# Altium footprint library Chips.PcbLib: 116 footprints (part 5 of 8)
Each footprint in its own frame and in the unit in brackets; x right, y up, seen from the top. Pads: shape width x height; smd on the part's side, far side on the other; paste and mask are expansions set on the pad; w line width, h text height; cw(c..) or ccw(c..) is an arc to the next point about the centre after c.
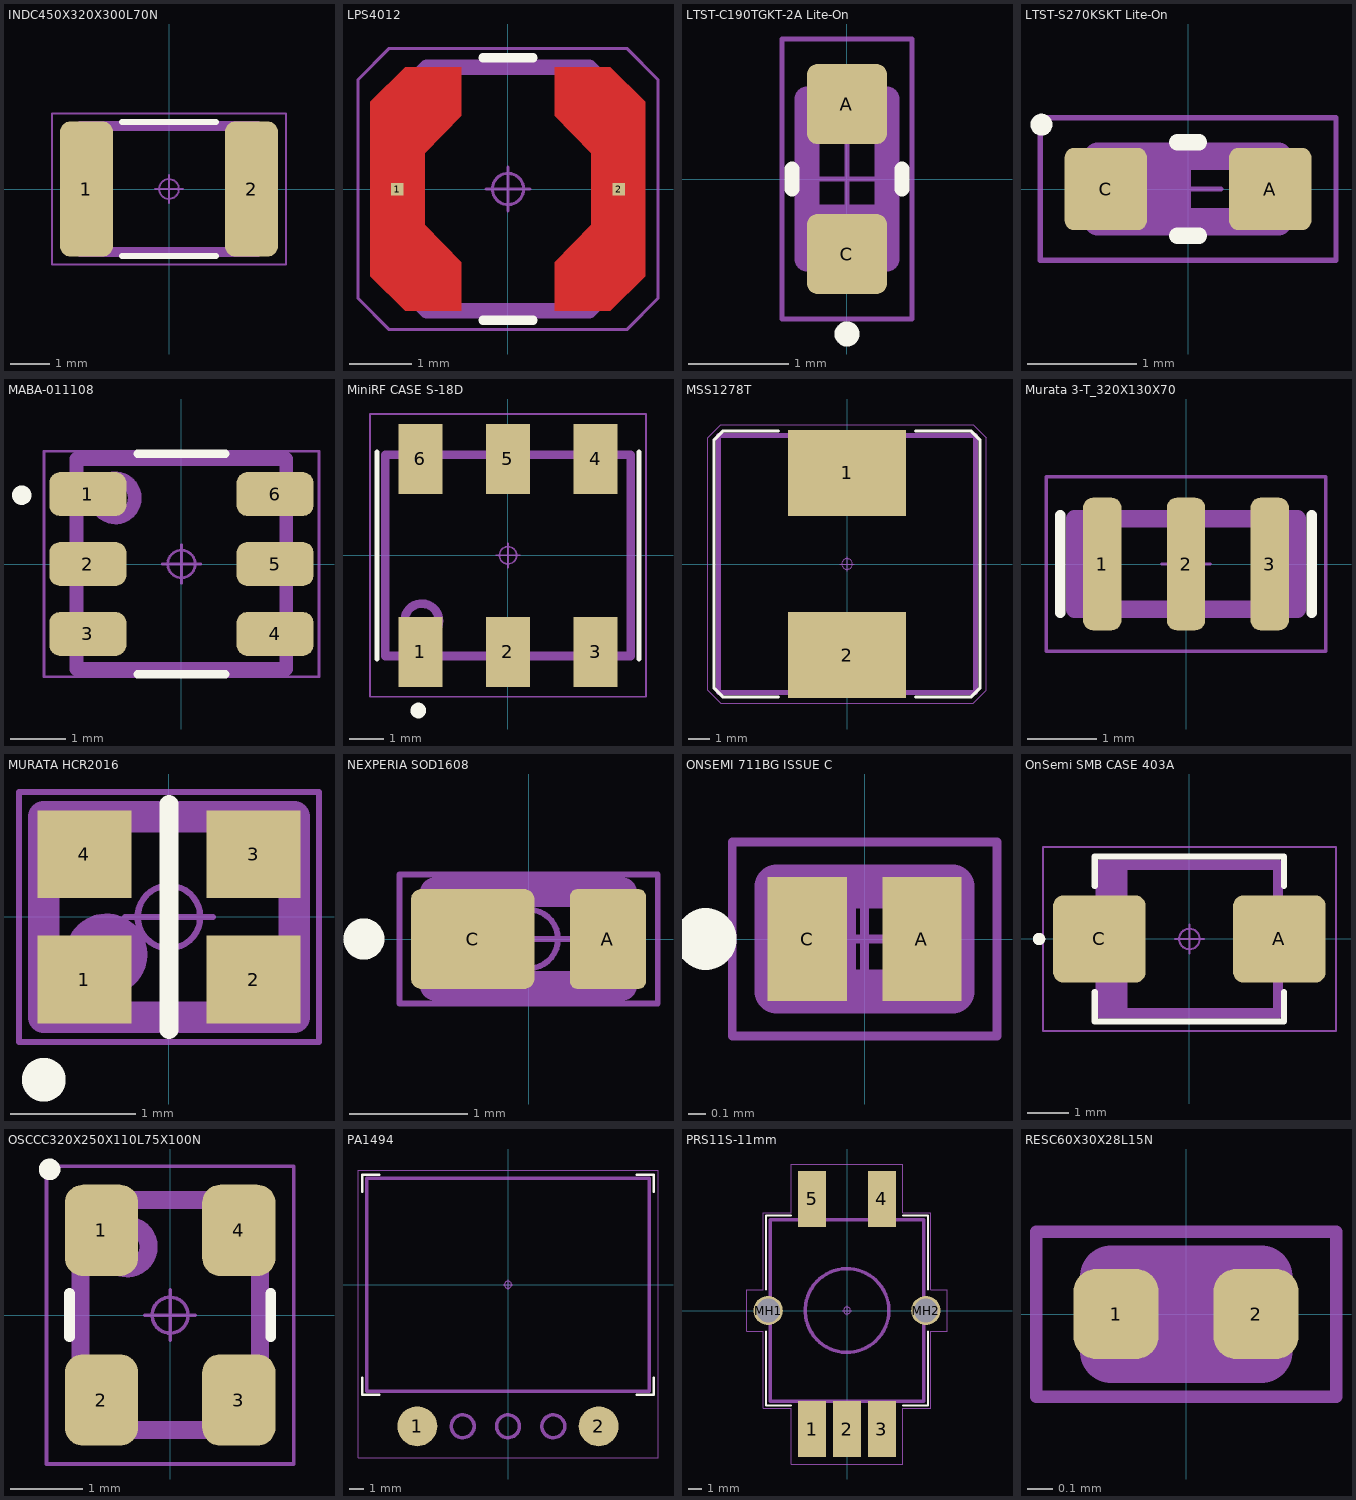
[diagram p4: the footprints below, top view; thin cyan lines are the x and y axes]

## INDC450X320X300L70N [mm] "Inductor, Chip; 4.50 mm L X 3.20 mm W X 3.00 mm H body"
height 3
pads (2):
  rrect37% 1.34x3.42 smd: 1(-2.09,0) 2(2.09,0)
Top Overlay:
  lines w0.15: -1.195,-1.7 1.195,-1.7 ; -1.195,1.7 1.195,1.7
Top Assembly:
  lines w0.25: -2.25,-1.6 2.25,-1.6 2.25,1.6 -2.25,1.6 -2.25,-1.6
  text ".Designator" at 0,0 h1.5
Top Courtyard:
  circle w0.05: c0,0 r0.25
  lines w0.05: -0.35,0 0.35,0 ; 0,-0.35 0,0.35 ; -2.96,-1.91 2.96,-1.91 2.96,1.91 -2.96,1.91 -2.96,-1.91
3D body "INDC450X320X300L70.STEP": height 3, standoff 0, extent -2.25,-1.6 2.25,1.6

## LPS4012 [mm] "Coilcraft LPS4012- series"
height 1.1
pads (2):
  rect 0.2x0.2 smd paste-2539.97 mask+0.102: 1(-1.775,0) 2(1.775,0)
Top Layer:
  region: -2.2,-1.395 -1.64,-1.945 -0.75,-1.945 -0.75,-1.17 -1.33,-0.575 -1.33,0.575 -0.75,1.17 -0.75,1.945 -1.64,1.945 -2.2,1.395
  region: 0.75,-1.945 0.75,-1.17 1.33,-0.575 1.33,0.575 0.75,1.17 0.75,1.945 1.64,1.945 2.2,1.395 2.2,-1.395 1.64,-1.945
Top Overlay:
  lines w0.15: -0.4,-2.1 0.4,-2.1 ; -0.4,2.1 0.4,2.1
Top Assembly:
  lines w0.25: -1.948,-1.298 -1.298,-1.948 1.298,-1.948 1.948,-1.298 1.948,1.298 1.298,1.948 -1.298,1.948 -1.948,1.298 -1.948,-1.298
  text ".Designator" at -3.378,-0.339 h1.5
Top Courtyard:
  circle w0.05: c0,0 r0.25
  lines w0.05: -0.35,0 0.35,0 ; 0,-0.35 0,0.35 ; -2.4,-1.75 -2.4,1.75 -1.9,2.25 1.9,2.25 2.4,1.75 2.4,-1.75 1.9,-2.25 -1.9,-2.25 -2.4,-1.75
3D body "Coilcraft-LPS4012.step": height 1.21, standoff 0.01, extent -1.99,-1.99 1.99,1.99

## LTST-C190TGKT-2A Lite-On [mm] "Lite-ON 0603 Green"
height 0.8
pads (2):
  rrect25% 0.8x0.8 smd: A(0,0.75) C(0,-0.75)
Top Overlay:
  circle w0.15: c0,-1.55 r0.05
  lines w0.15: -0.55,-0.1 -0.55,0.1 ; 0.55,-0.1 0.55,0.1
Top Assembly:
  rectangle: -0.381,-0.8 0.381,-0.254
  lines w0.25: -0.4,-0.8 -0.4,0.8 0.4,0.8 0.4,-0.8 -0.4,-0.8
  text ".Designator" at -3.378,-0.339 h1.5
Top Courtyard:
  lines w0.05: -0.35,0 0.35,0 ; 0,-0.35 0,0.35 ; -0.65,-1.4 -0.65,1.4 0.65,1.4 0.65,-1.4 -0.65,-1.4
3D body "LTST-C190TGKT-2A.STEP": height 0.85, standoff 0, extent -0.4,-0.8 0.4,0.8

## LTST-S270KSKT Lite-On [mm] "Chip Diode, 2-Leads, Body 1.65x0.60mm, IPC Medium Density"
height 1.15
pads (2):
  rrect22% 0.75x0.75 smd: A(0.75,0) C(-0.75,0)
Top Overlay:
  circle w0.1: c-1.337,0.587 r0.05
  lines w0.15: -0.1,-0.425 0.1,-0.425 ; -0.1,0.425 0.1,0.425
Top Assembly:
  rectangle: -0.8,-0.3 0,0.25
  lines w0.25: -0.825,-0.3 -0.825,0.3 0.825,0.3 0.825,-0.3 -0.825,-0.3
  text ".Designator" at -0.55,0.682 h1.5
Top Courtyard:
  lines w0.05: -0.3,0 0.3,0 ; 0,-0.3 0,0.3 ; -1.35,-0.65 -1.35,0.65 1.35,0.65 1.35,-0.65 -1.35,-0.65
3D body "LTST-S270KSKT.STEP": height 1.15, standoff 0, extent -0.825,-0.3 0.825,0.3

## MABA-011108 [mm] "MA-COM 3.81X3.81X3.22 6-pin"
height 3.22
pads (6):
  rrect50% 1.4x0.8 smd: 1(-1.7,1.27) 2(-1.7,0) 3(-1.7,-1.27) 4(1.7,-1.27) 5(1.7,0) 6(1.7,1.27)
Top Overlay:
  circle w0.25: c-2.9,1.25 r0.05
  lines w0.15: -0.8,-2 0.8,-2 ; -0.8,2 0.8,2
Top Assembly:
  circle w0.25: c-1.2,1.2 r0.354
  lines w0.25: -1.905,-1.905 1.905,-1.905 1.905,1.905 -1.905,1.905 -1.905,-1.905
  text ".Designator" at -3.378,-0.339 h1.5
Top Courtyard:
  circle w0.05: c0,0 r0.25
  lines w0.05: -0.35,0 0.35,0 ; 0,-0.35 0,0.35 ; -2.498,-2.048 2.498,-2.048 2.498,2.048 -2.498,2.048 -2.498,-2.048
3D body "MABA-011108.STEP": height 3.22, standoff 0, extent -1.9,-1.9 1.9,1.9

## MiniRF CASE S-18D [mm] "6 pin, 2.54 pitch, 7.11 x 6.35 x 3.18"
height 3.148
pads (6):
  rect 1.27x2.03 smd: 1(-2.54,-2.8) 2(0,-2.8) 3(2.54,-2.8) 4(2.54,2.8) 5(0,2.8) 6(-2.54,2.8)
Top Overlay:
  circle w0.254: c-2.6,-4.5 r0.1
  lines w0.15: -3.8,-3 -3.8,3 ; 3.8,-3 3.8,3
Top Assembly:
  circle w0.25: c-2.5,-1.9 r0.5
  lines w0.25: -3.555,-2.92 -3.555,2.92 3.555,2.92 3.555,-2.92 -3.555,-2.92
  text ".Designator" at -3.378,-0.339 h1.5
Top Courtyard:
  circle w0.05: c0,0 r0.25
  lines w0.05: -0.35,0 0.35,0 ; 0,-0.35 0,0.35 ; -3.998,-4.098 3.998,-4.098 3.998,4.098 -3.998,4.098 -3.998,-4.098
3D body "MiniRF S-18D.STEP": height 3.18, standoff 0, extent -3.555,-3.175 3.555,3.175

## MSS1278T [mm] "Coilcraft MSS1278T Series"
height 7.8
pads (2):
  rect 5.5x4 smd: 1(0,4.25) 2(0,-4.25)
Top Overlay:
  lines w0.15: -3.2,-6.2 -5.8,-6.2 -6.2,-5.8 -6.2,5.8 -5.8,6.2 -3.2,6.2 ; 3.2,-6.2 5.8,-6.2 6.2,-5.8 6.2,5.8 5.8,6.2 3.2,6.2
Top Assembly:
  lines w0.25: -6,-6 6,-6 6,6 -6,6 -6,-6
  text ".Designator" at -3.3,-0.3 h1.5
Top Courtyard:
  circle w0.05: c0,0 r0.25
  lines w0.05: -0.35,0 0.35,0 ; 0,-0.35 0,0.35 ; -6.5,-5.9 -6.5,5.9 -5.9,6.5 5.9,6.5 6.5,5.9 6.5,-5.9 5.9,-6.5 -5.9,-6.5 -6.5,-5.9
3D body "MSS1278T.STEP": height 7.8, standoff 0, extent -6,-6 6,6

## Murata 3-T_320X130X70 [mm] "Murata 3-Terminal 3.2X1.3X0.7"
height 0.7
pads (3):
  rrect50% 0.55x1.9 smd: 1(-1.2,0) 2(0,0) 3(1.2,0)
Top Overlay:
  lines w0.15: -1.8,-0.7 -1.8,0.7 ; 1.8,-0.7 1.8,0.7
Top Assembly:
  lines w0.25: -1.598,-0.648 1.598,-0.648 1.598,0.648 -1.598,0.648 -1.598,-0.648
  text ".Designator" at -3.378,-0.339 h1.5
Top Courtyard:
  circle w0.05: c0,0 r0.25
  lines w0.05: -0.35,0 0.35,0 ; 0,-0.35 0,0.35 ; -2,-1.25 -2,1.25 2,1.25 2,-1.25 -2,-1.25
3D body "3-terminal_CERCAPREZ_320X130X70.STEP": height 0.7, standoff 0, extent -1.605,-0.701 1.595,0.699

## MURATA HCR2016 [mm] "Size: 2.0 x 1.6mm"
height 0.7
pads (4):
  rect 0.75x0.7 smd: 1(-0.675,-0.5) 2(0.675,-0.5) 3(0.675,0.5) 4(-0.675,0.5)
Top Overlay:
  circle w0.25: c-1,-1.3 r0.05
  lines w0.15: 0,-0.9 0,0.9
Top Assembly:
  circle w0.254: c-0.5,-0.3 r0.2
  lines w0.25: -1,-0.8 -1,0.8 1,0.8 1,-0.8 -1,-0.8
  text ".Designator" at -3.378,1.461 h1.5
Top Courtyard:
  circle w0.05: c0,0 r0.25
  lines w0.05: -0.35,0 0.35,0 ; 0,-0.35 0,0.35 ; -1.198,-0.998 1.198,-0.998 1.198,0.998 -1.198,0.998 -1.198,-0.998
3D body "Resonator HCR2016_colors.STEP": height 0.71, standoff 0.01, extent -1,-0.8 1,0.8

## NEXPERIA SOD1608 [mm] "Nexperia DFN1608D-2 (SOD1608)"
height 0.4
pads (2):
  rrect20% 0.65x0.85 smd: A(0.675,0)
  rrect20% 1.05x0.85 smd: C(-0.475,0)
Top Overlay:
  circle w0.25: c-1.4,0 r0.05
Top Assembly:
  rectangle: -0.7,-0.4 -0.2,0.4
  lines w0.25: -0.798,-0.398 0.798,-0.398 0.798,0.398 -0.798,0.398 -0.798,-0.398
  text ".Designator" at -3.378,0.961 h1.5
Top Courtyard:
  circle w0.05: c0,0 r0.25
  lines w0.05: -0.35,0 0.35,0 ; 0,-0.35 0,0.35 ; -1.098,-0.548 1.098,-0.548 1.098,0.548 -1.098,0.548 -1.098,-0.548
3D body "Nexperia SOD1608.STEP": height 0.38, standoff 0, extent -0.8,-0.4 0.8,0.4

## ONSEMI 711BG ISSUE C [mm] "X2DFNW2 1.0x0.6, 0.65P"
height 0.4
pads (2):
  rect 0.45x0.7 smd: A(0.325,0) C(-0.325,0)
Top Overlay:
  circle w0.25: c-0.9,0 r0.05
Top Assembly:
  rectangle: -0.5,-0.35 -0.05,0.3
  lines w0.25: -0.498,-0.298 0.498,-0.298 0.498,0.298 -0.498,0.298 -0.498,-0.298
  text ".Designator" at -3.378,1.011 h1.5
Top Courtyard:
  circle w0.05: c0,0 r0.25
  lines w0.05: -0.35,0 0.35,0 ; 0,-0.35 0,0.35 ; -0.75,-0.55 0.75,-0.55 0.75,0.55 -0.75,0.55 -0.75,-0.55
3D body "CASE 711BG ISSUE C.STEP": height 0.4, standoff 0, extent -0.55,-0.3 0.55,0.3

## OnSemi SMB CASE 403A [mm] "Diode, Molded Body; 4.33 mm L X 3.625 mm W X 2.47 mm H body IPC DIOM540X362X247L118X208N"
height 2.47
pads (2):
  rrect24% 2.25x2.12 smd: A(2.185,0) C(-2.185,0)
Top Overlay:
  circle w0.15: c-3.65,0 r0.075
  lines w0.15: -2.3,-1.285 -2.3,-2 2.3,-2 2.3,-1.285 ; -2.3,1.285 -2.3,2 2.3,2 2.3,1.285
Top Assembly:
  rectangle: -2.15,-1.8 -1.5,1.8
  lines w0.25: -2.15,-1.8 -2.15,1.8 2.15,1.8 2.15,-1.8 -2.15,-1.8
  text ".Designator" at -2.978,-0.339 h1.5
Top Courtyard:
  circle w0.05: c0,0 r0.25
  lines w0.05: -0.35,0 0.35,0 ; 0,-0.35 0,0.35 ; -3.56,-2.23 -3.56,2.23 3.56,2.23 3.56,-2.23 -3.56,-2.23
3D body "DIOM540X362X247L118X208.STEP": height 2.47, standoff 0, extent -2.702,-1.813 2.702,1.813

## OSCCC320X250X110L75X100N [mm] "Oscillator, Corner Concave; 3.20 mm L X 2.50 mm W X 1.10 mm H body"
height 1.1
pads (4):
  rrect49% 1.02x1.27 smd: 1(-0.955,1.18) 2(-0.955,-1.18) 3(0.955,-1.18) 4(0.955,1.18)
Top Overlay:
  circle w0.15: c-1.677,2.027 r0.075
  lines w0.15: -1.4,-0.3 -1.4,0.3 ; 1.4,-0.3 1.4,0.3
Top Assembly:
  circle w0.25: c-0.6,0.95 r0.3
  lines w0.25: -1.25,-1.6 -1.25,1.6 1.25,1.6 1.25,-1.6 -1.25,-1.6
  text ".Designator" at -2.704,-0.271 h1.2
Top Courtyard:
  circle w0.05: c0,0 r0.25
  lines w0.05: -0.35,0 0.35,0 ; 0,-0.35 0,0.35 ; -1.72,-2.07 -1.72,2.07 1.72,2.07 1.72,-2.07 -1.72,-2.07
3D body "OSCCC320X250X110L75X100.STEP": height 1.1, standoff 0, extent -1.25,-1.6 1.25,1.6

## PA1494 [mm] "Pulse Planar inductor"
height 7.4
pads (2):
  round 2.8 smd: 1(-6.35,-9.91) 2(6.35,-9.91)
Top Overlay:
  lines w0.15: -10.2,-6.5 -10.2,-7.7 -9,-7.7 ; -10.2,6.5 -10.2,7.7 -9,7.7 ; 9,-7.7 10.2,-7.7 10.2,-6.5 ; 9,7.7 10.2,7.7 10.2,6.5
Top Assembly:
  circle w0.25: c6.35,-9.91 r0.8
  circle w0.25: c3.17,-9.91 r0.8
  circle w0.25: c0,-9.91 r0.8
  circle w0.25: c-3.17,-9.91 r0.8
  circle w0.25: c-6.35,-9.91 r0.8
  lines w0.25: -9.9,-7.45 9.9,-7.45 9.9,7.45 -9.9,7.45 -9.9,-7.45
  text ".Designator" at -2.8,-0.3 h1.5
Top Courtyard:
  circle w0.05: c0,0 r0.25
  lines w0.05: -0.35,0 0.35,0 ; 0,-0.35 0,0.35 ; -10.5,-12.1 -10.5,8 10.5,8 10.5,-12.1 -10.5,-12.1
3D body "PA1494.STEP": height 7.37, standoff 0, extent -9.905,-12.09 9.905,7.47

## PRS11S-11mm [mm] "Bourns 11 mm SMD Potentiometer with Mounting Holes"
height 20
pads (7):
  rect 2x4 smd: 1(-2.5,-8.5) 2(0,-8.5) 3(2.5,-8.5) 4(2.5,8) 5(-2.5,8)
  round 2.1 hole 1.7: MH1(-5.65,0) MH2(5.65,0)
Top Overlay:
  lines w0.15: -5.8,-1.5 -5.8,-6.8 -4,-6.8 ; -5.8,1.5 -5.8,6.8 -4,6.8 ; 4,-6.8 5.8,-6.8 5.8,-1.5 ; 4,6.8 5.8,6.8 5.8,1.5
Top Assembly:
  circle w0.25: c0,0 r3
  lines w0.25: -5.5,-6.5 -5.5,6.5 5.5,6.5 5.5,-6.5 -5.5,-6.5
  text ".Designator" at -2.4,-0.6 h1.5
Top Courtyard:
  circle w0.05: c0,0 r0.25
  lines w0.05: -0.35,0 0.35,0 ; 0,-0.35 0,0.35 ; -7.2,-1.5 -7.2,1.5 -6,1.5 -6,7 -4,7 -4,10.5 4,10.5 4,7 6,7 6,1.5 7.2,1.5 7.2,-1.5 6,-1.5 6,-7 4,-7 4,-11 -4,-11 -4,-7 -6,-7 -6,-1.5 -7.2,-1.5
3D body "PRS11S-11mm.STEP": height 20, standoff -1.4, extent -5.85,-9.5 5.85,9

## RESC60X30X28L15N [mm] "Resistor, Chip; 0.60 mm L X 0.30 mm W X 0.28 mm H body"
height 0.28
pads (2):
  rrect53% 0.34x0.36 smd: 1(-0.28,0) 2(0.28,0)
Top Assembly:
  lines w0.25: -0.3,-0.15 0.3,-0.15 0.3,0.15 -0.3,0.15 -0.3,-0.15
  text ".Designator" at 0,0 h1.5
Top Courtyard:
  circle w0.05: c0,0 r0.124
  lines w0.05: -0.165,0 0.165,0 ; 0,-0.165 0,0.165 ; -0.6,-0.33 0.6,-0.33 0.6,0.33 -0.6,0.33 -0.6,-0.33
3D body "RESC60X30X28L15.STEP": height 0.28, standoff 0, extent -0.3,-0.15 0.3,0.15